# Altium footprint library Synthiam-roundtrip2.PcbLib: 481 footprints (part 3 of 31)
Each footprint in its own frame and in the unit in brackets; x right, y up, seen from the top. Pads: shape width x height; smd on the part's side, far side on the other; paste and mask are expansions set on the pad; w line width, h text height; cw(c..) or ccw(c..) is an arc to the next point about the centre after c.
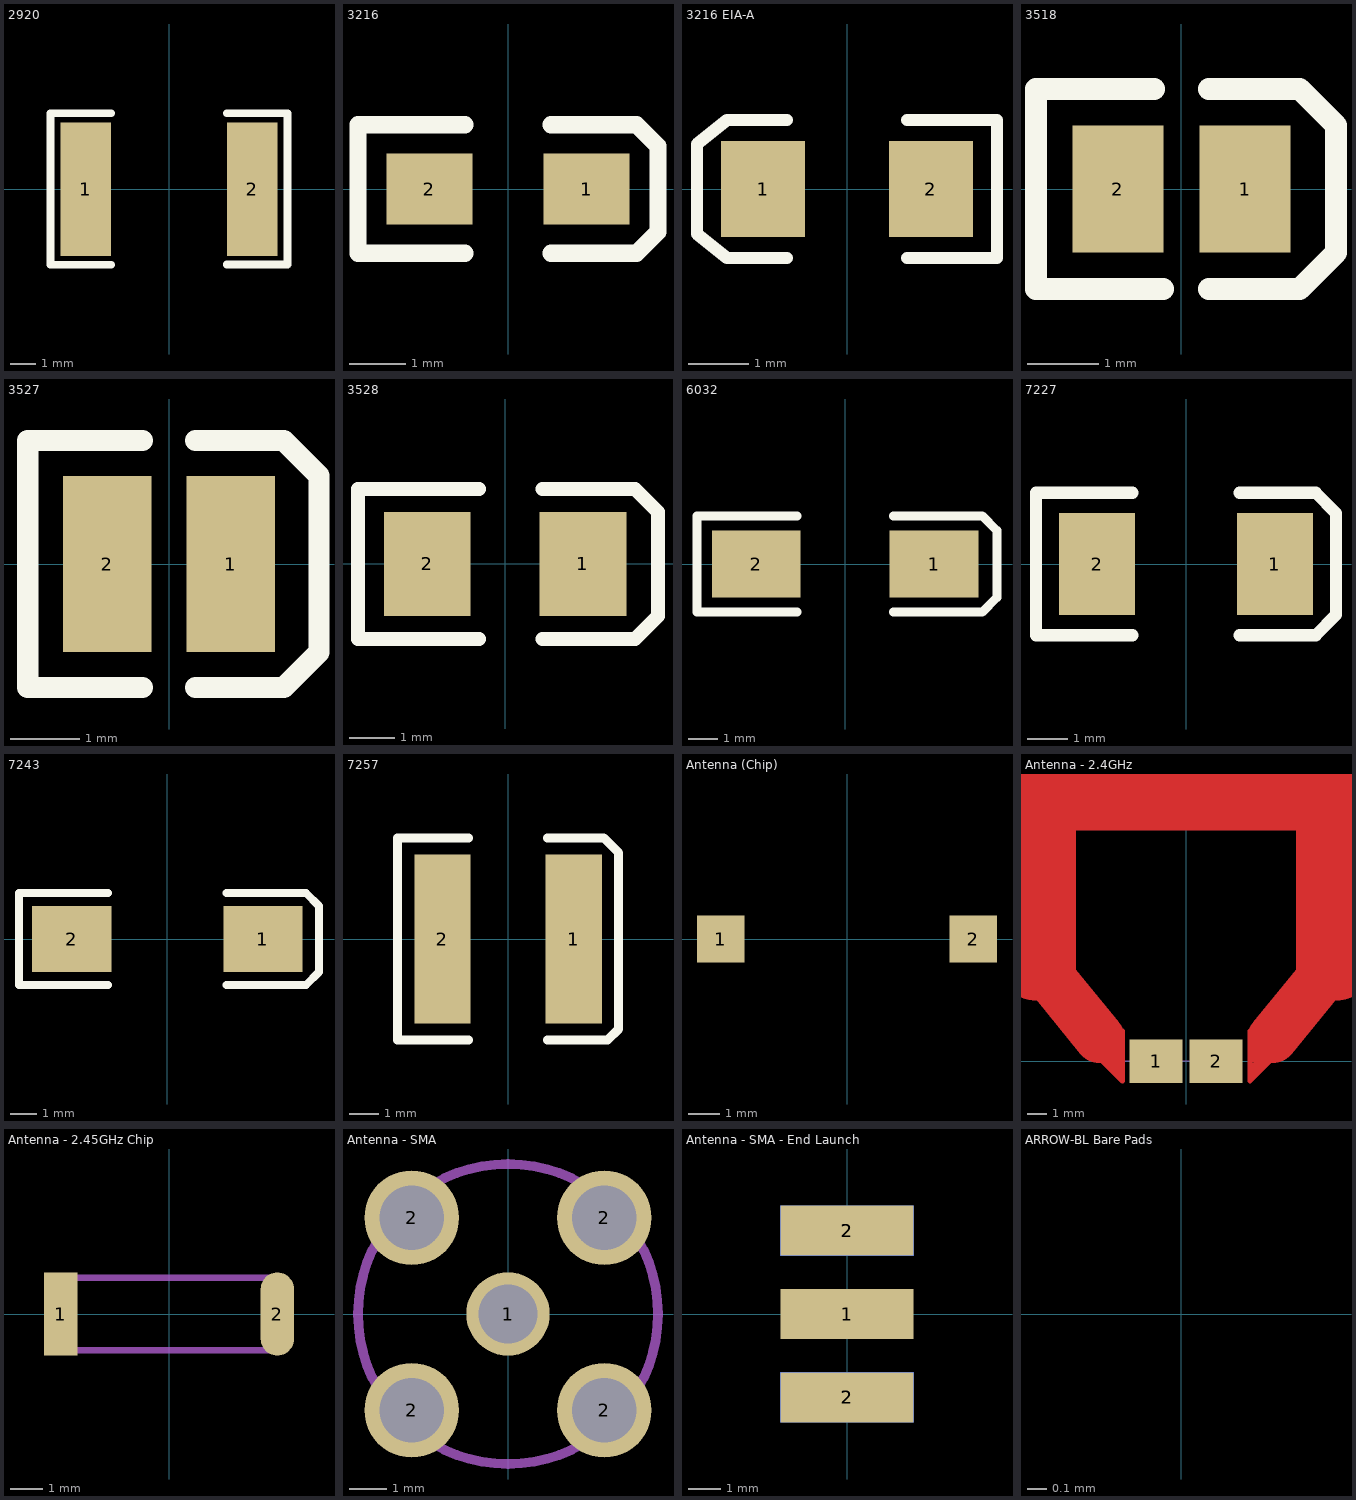
[diagram p2: the footprints below, top view; thin cyan lines are the x and y axes]

## 2920 [mm] "PTC resettable fuse footprint"
height 1
pads (2):
  rect 2x5.3 smd: 1(-3.3,0) 2(3.3,0)
Top Overlay:
  lines w0.305: -2.286,-3.005 -4.699,-3.005 -4.699,3.015 -2.286,3.015 ; 2.286,-2.99 4.699,-2.99 4.699,3.01 2.286,3.01

## 3216 [mil]
height 181.1
pads (2):
  rect 60x50 smd: 1(55,0) 2(-55,0)
Top Overlay:
  lines w12: -30,-45 -105,-45 -105,45 -30,45 ; 30,-45 90,-45 105,-30 105,30 90,45 30,45

## 3216 EIA-A [mm]
pads (2):
  rect 1.4x1.6 smd: 1(-1.4,0) 2(1.4,0)
Top Overlay:
  lines w0.203: -1,-1.15 -2,-1.15 -2.5,-0.75 -2.5,0.75 -2,1.15 -1,1.15 ; 1,-1.15 2.5,-1.15 2.5,1.15 1,1.15

## 3518 [mil]
height 181.1
pads (2):
  rect 50x70 smd: 1(35,0) 2(-35,0)
Top Overlay:
  lines w12: -15,55 -80,55 -80,-55 -10,-55 ; 15,-55 65,-55 85,-35 85,35 65,55 15,55

## 3527 [mil]
height 181.1
pads (2):
  rect 50x100 smd: 1(35,0) 2(-35,0)
Top Overlay:
  lines w12: -15,-70 -80,-70 -80,70 -15,70 ; 15,-70 65,-70 85,-50 85,50 65,70 15,70

## 3528 [mil]
height 181.1
pads (2):
  rect 75x90 smd: 1(67.5,0) 2(-67.5,0)
Top Overlay:
  lines w12: -22.5,-65 -127.5,-65 -127.5,65 -22.5,65 ; 32.5,-65 112.5,-65 132.5,-45 132.5,45 112.5,65 32.5,65

## 6032 [mil]
height 181.1
pads (2):
  rect 120x90 smd: 1(120,0) 2(-120,0)
Top Overlay:
  lines w12: -65,-65 -200,-65 -200,65 -65,65 ; 65,-65 185,-65 205,-45 205,45 185,65 65,65

## 7227 [mil]
height 181.1
pads (2):
  rect 75x100 smd: 1(87.5,0) 2(-87.5,0)
Top Overlay:
  lines w12: -52.5,-70 -147.5,-70 -147.5,70 -52.5,70 ; 52.5,-70 127.5,-70 147.5,-50 147.5,50 127.5,70 52.5,70

## 7243 [mil]
height 181.1
pads (2):
  rect 120x100 smd: 1(145,0) 2(-145,0)
Top Overlay:
  lines w12: -90,-70 -225,-70 -225,70 -90,70 ; 90,-70 210,-70 230,-50 230,50 210,70 90,70

## 7257 [mil]
height 181.1
pads (2):
  rect 75x225 smd: 1(87.5,0) 2(-87.5,0)
Top Overlay:
  lines w12: -52.5,-135 -147.5,-135 -147.5,135 -52.5,135 ; 52.5,-135 132.5,-135 147.5,-120 147.5,115 127.5,135 52.5,135

## Antenna (Chip) [mm]
pads (2):
  rect 1.5x1.5 smd: 1(-4,0) 2(4,0)

## Antenna - 2.4GHz [mil]
pads (2):
  rect 106.3x87 smd: 1(-60,0.05)
  rect 106.6x87 smd: 2(60,-0.05)
Top Layer:
  lines w10: -224.98,177.67 -224.98,205.65 ; -169.99,2.49 -127.5,-40 ; -127.5,7.53 -135.57,15.61 -142.84,15.61 -144.85,13.59 -144.85,11.77 -127.5,-5.58 -127.5,-14.67 -146.68,4.51 -149.9,4.51 -153.94,0.47 -153.94,-1.55 -127.5,-27.99 -127.5,-40 ; -127.5,60 -127.5,-40 ; 127.5,60 127.5,-40 127.53,-40 171.02,3.5 173.04,3.5 ; 134.94,13.84 130.78,13.84 127.5,10.56 127.5,-2.56 140.37,10.31 146.55,10.31 151.6,5.26 148.95,5.26 127.5,-16.18 127.5,-27.79 157.78,2.49 158.91,2.49 ; 225.01,178.97 225.01,204.46
  lines w100: -300,201.5 -173,46 ; 173,46 300,201.5
  lines w160: -300,201.5 -300,541.5 300,541.5 300,201.5
Mechanical 1:
  lines w2: -122.51,0.14 -112.51,0.14 ; -7.05,0.27 6.95,0.27

## Antenna - 2.45GHz Chip [mil]
pads (2):
  rect 40x100 smd: 1(-130,0)
  oval 40x100 smd: 2(130,0)
Mechanical 1:
  lines w8: -127.95,-43.31 127.95,-43.31 ; -127.95,43.31 127.95,43.31

## Antenna - SMA [mm]
pads (5):
  round 2.2 hole 1.57: 1(0,0)
  round 2.5 hole 1.7: 2(-2.54,-2.54) 2(-2.54,2.54) 2(2.54,-2.54) 2(2.54,2.54)
Mechanical 1:
  circle w0.254: c0,0 r3.96

## Antenna - SMA - End Launch [mil]
pads (5):
  rect 160x60 smd: 1(0,0) 2(0,-100) 2(0,100)
  rect 160x60 smd far side: 2(0,-100) 2(0,100)

## ARROW-BL Bare Pads [mil]
Mid-Layer 2:
  lines w10: -21,11 -21,-11 12,0 -16,8 -16,0 -5,0 ; -29,-21 -29,21 31,0 -29,-21